# Altium integrated library CM8V-T1A-32.768KHZ-9PF-20PPM-TA-QC.IntLib: 1 symbol
Pins are listed as number, name and electrical type; pins without a type are passive.

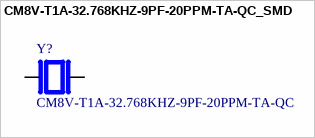
[diagram p0: symbol CM8V-T1A-32.768KHZ-9PF-20PPM-TA-QC_SMD]

## CM8V-T1A-32.768KHZ-9PF-20PPM-TA-QC_SMD
designator Y?, comment CM8V-T1A-32.768KHZ-9PF-20PPM-TA-QC
32.768 kHz ±20ppm Crystal 9pF 70 kOhms 2-SMD, No Lead; MF: Micro Crystal AG; MP: CM8V-T1A-32.768KHZ-12.5PF-20PPM-TA-QC; Package: SMD-2 Micro Crystal; Digi-Key_Part_Number: 2195-CM8V-T1A-32.768KHZ-12.5PF-20PPM-TA-QCCT-ND; Check_prices: https://www.snapeda.com/parts/CM8V-T1A-32.768KHZ-12.5PF-20PPM-TA-QC/Micro%20Crystal/view-part/5048073/?ref=eda; Value: *; SnapEDA_Link: https://www.snapeda.com/parts/CM8V-T1A-32.768KHZ-12.5PF-20PPM-TA-QC/Micro%20Crystal/view-part/5048073/?ref=snap; Purchase-URL: https://pricing.snapeda.com/search/part/CM8V-T1A-32.768KHZ-12.5PF-20PPM-TA-QC/?ref=eda; Supplier 1: Digi-Key; Supplier Part Number 1: 2195-CM8V-T1A-32.768KHZ-9PF-20PPM-TA-QCCT-ND
footprint XTAL_CM8V-T1A-32.768KHZ-12.5PF-20PPM-TA-QC
pins: 1, 2